# EAGLE library part TB67S109AFNG (library TB67S109AFTG)
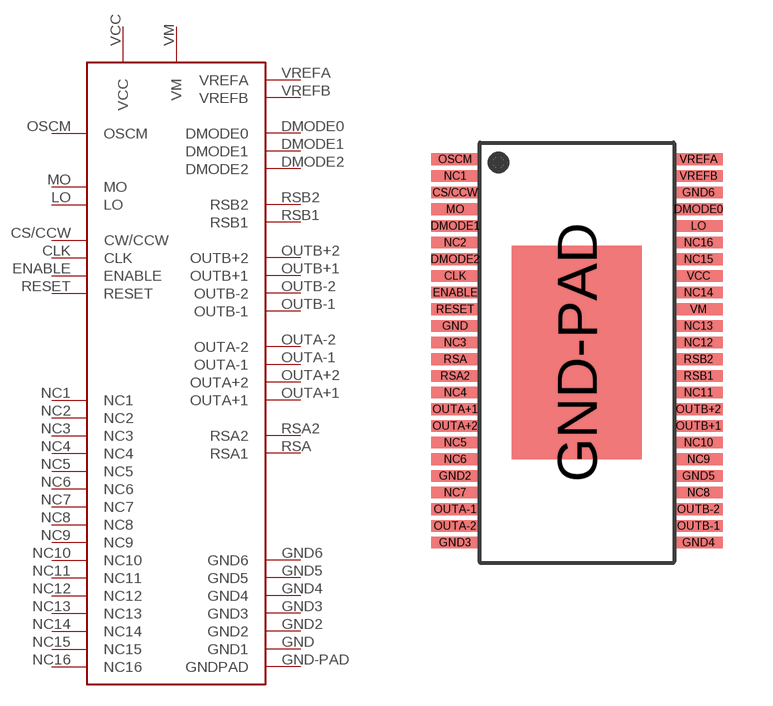
[diagram p0: symbol with the pads of TB67S109AFNG-HTSSOP48-P-300-0.50; footprint TB67S109AFNG-HTSSOP48-P-300-0.50]

Designator prefix -

## TB67S109AFNG  [TB67S109AFNG-HTSSOP48-P-300-0.50]
CLK  CLK
CS/CCW  CW/CCW
DMODE0  DMODE0
DMODE1  DMODE1
DMODE2  DMODE2
ENABLE  ENABLE
GND  GND1
GND2  GND2
GND3  GND3
GND4  GND4
GND5  GND5
GND6  GND6
GND-PAD  GNDPAD
LO  LO
MO  MO
NC1  NC1
NC2  NC2
NC3  NC3
NC4  NC4
NC5  NC5
NC6  NC6
NC7  NC7
NC8  NC8
NC9  NC9
NC10  NC10
NC11  NC11
NC12  NC12
NC13  NC13
NC14  NC14
NC15  NC15
NC16  NC16
OSCM  OSCM
OUTA+1  OUTA+1
OUTA+2  OUTA+2
OUTA-1  OUTA-1
OUTA-2  OUTA-2
OUTB+1  OUTB+1
OUTB+2  OUTB+2
OUTB-1  OUTB-1
OUTB-2  OUTB-2
RESET  RESET
RSA  RSA1
RSA2  RSA2
RSB1  RSB1
RSB2  RSB2
VCC  VCC
VM  VM
VREFA  VREFA
VREFB  VREFB

## Footprint TB67S109AFNG-HTSSOP48-P-300-0.50 (pad centres in mm)
TB67S109AFTG
smd 1.45 x 0.35: CLK -3.65,2.3; CS/CCW -3.65,4.8; DMODE0 3.65,4.3; DMODE1 -3.65,3.8; DMODE2 -3.65,2.8; ENABLE -3.65,1.8; GND -3.65,0.8; GND2 -3.65,-3.7; GND3 -3.65,-5.7; GND4 3.65,-5.7; GND5 3.65,-3.7; GND6 3.65,4.8; LO 3.65,3.8; MO -3.65,4.3; NC1 -3.65,5.3; NC2 -3.65,3.3; NC3 -3.65,0.3; NC4 -3.65,-1.2; NC5 -3.65,-2.7; NC6 -3.65,-3.2; NC7 -3.65,-4.2; NC8 3.65,-4.2; NC9 3.65,-3.2; NC10 3.65,-2.7; NC11 3.65,-1.2; NC12 3.65,0.3; NC13 3.65,0.8; NC14 3.65,1.8; NC15 3.65,2.8; NC16 3.65,3.3; OSCM -3.65,5.8; OUTA+1 -3.65,-1.7; OUTA+2 -3.65,-2.2; OUTA-1 -3.65,-4.7; OUTA-2 -3.65,-5.2; OUTB+1 3.65,-2.2; OUTB+2 3.65,-1.7; OUTB-1 3.65,-5.2; OUTB-2 3.65,-4.7; RESET -3.65,1.3; RSA -3.65,-0.2; RSA2 -3.65,-0.7; RSB1 3.65,-0.7; RSB2 3.65,-0.2; VCC 3.65,2.3; VM 3.65,1.3; VREFA 3.65,5.8; VREFB 3.65,5.3
smd 3.9 x 6.4: GND-PAD 0,0